# EAGLE library part UA78L05ACDR-5VREG (library work)
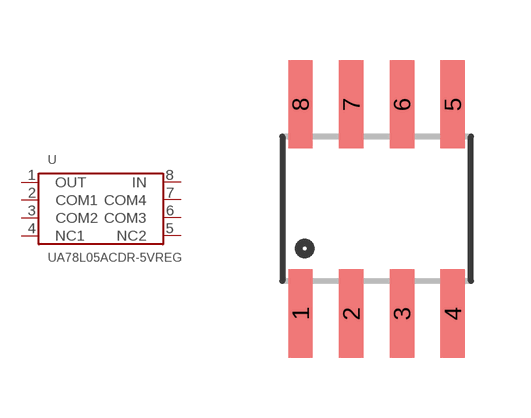
[diagram p2: symbol with the pads of SOIC-8; footprint SOIC-8]

Designator prefix U

## UA78L05ACDR-5VREG  [SOIC-8]
1  OUT
2  COM1
3  COM2
4  NC1
5  NC2
6  COM3
7  COM4
8  IN

## Footprint SOIC-8 (pad centres in mm)
smd 0.61 x 2.21: 1 -1.905,-2.616; 2 -0.635,-2.616; 3 0.635,-2.616; 4 1.905,-2.616; 5 1.905,2.616; 6 0.635,2.616; 7 -0.635,2.616; 8 -1.905,2.616